# EAGLE library part HDC1080 (library Maviengin)
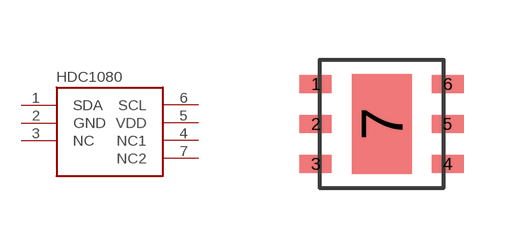
[diagram p0: symbol with the pads of HDC1080; footprint HDC1080]

Designator prefix -

## HDC1080  [HDC1080]
1  SDA
2  GND
3  NC
4  NC1
5  VDD
6  SCL
7  NC2

## Footprint HDC1080 (pad centres in mm)
smd 0.8 x 0.45: 1 -3.2,1.6; 2 -3.2,0.6; 3 -3.2,-0.4; 4 0.1,-0.4; 5 0.1,0.6; 6 0.1,1.6
smd 1.5 x 2.5: 7 -1.55,0.6